# EAGLE library part XC9572XL-VQ44 (library XC9500XLneu)
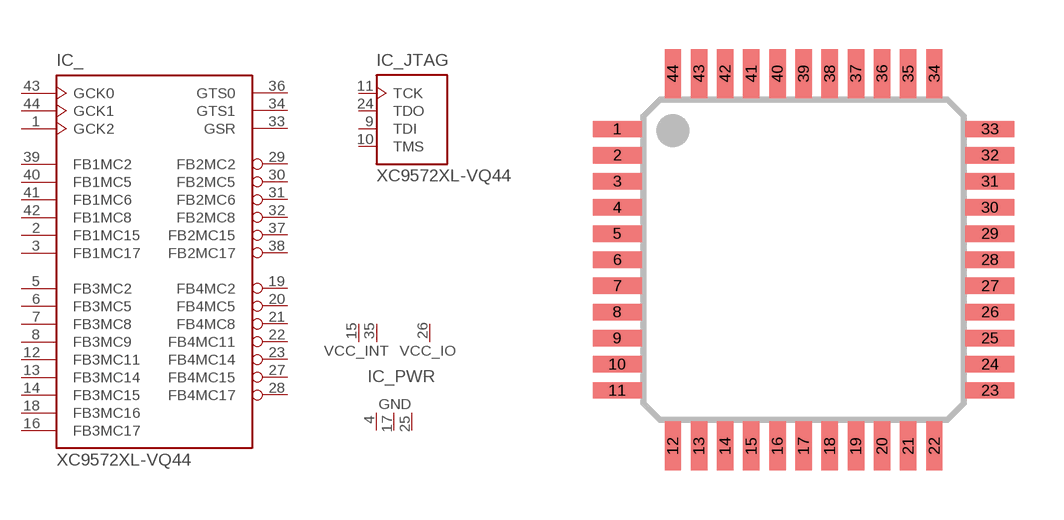
[diagram p5: symbol with the pads of VQ44; footprint VQ44]

Designator prefix IC; gates _=XC9572XL-VQ44 _JTAG=JTAG _PWR=XC9572XL_PWR

## XC9572XL-VQ44  [VQ44]
1  _:GCK2  in
2  _:FB1MC15
3  _:FB1MC17
4  _PWR:GND  pwr
5  _:FB3MC2
6  _:FB3MC5
7  _:FB3MC8
8  _:FB3MC9
9  _JTAG:TDI  in
10  _JTAG:TMS  in
11  _JTAG:TCK  in
12  _:FB3MC11
13  _:FB3MC14
14  _:FB3MC15
15  _PWR:VCC_INT  pwr
16  _:FB3MC17
17  _PWR:GND  pwr
18  _:FB3MC16
19  _:FB4MC2
20  _:FB4MC5
21  _:FB4MC8
22  _:FB4MC11
23  _:FB4MC14
24  _JTAG:TDO  out
25  _PWR:GND  pwr
26  _PWR:VCC_IO  pwr
27  _:FB4MC15
28  _:FB4MC17
29  _:FB2MC2
30  _:FB2MC5
31  _:FB2MC6
32  _:FB2MC8
33  _:GSR  in
34  _:GTS1  in
35  _PWR:VCC_INT  pwr
36  _:GTS0  in
37  _:FB2MC15
38  _:FB2MC17
39  _:FB1MC2
40  _:FB1MC5
41  _:FB1MC6
42  _:FB1MC8
43  _:GCK0  in
44  _:GCK1  in

## Footprint VQ44 (pad centres in mm)
smd 1.5 x 0.5: 1 -5.7,4; 2 -5.7,3.2; 3 -5.7,2.4; 4 -5.7,1.6; 5 -5.7,0.8; 6 -5.7,0; 7 -5.7,-0.8; 8 -5.7,-1.6; 9 -5.7,-2.4; 10 -5.7,-3.2; 11 -5.7,-4; 23 5.7,-4; 24 5.7,-3.2; 25 5.7,-2.4; 26 5.7,-1.6; 27 5.7,-0.8; 28 5.7,0; 29 5.7,0.8; 30 5.7,1.6; 31 5.7,2.4; 32 5.7,3.2; 33 5.7,4
smd 0.5 x 1.5: 12 -4,-5.7; 13 -3.2,-5.7; 14 -2.4,-5.7; 15 -1.6,-5.7; 16 -0.8,-5.7; 17 0,-5.7; 18 0.8,-5.7; 19 1.6,-5.7; 20 2.4,-5.7; 21 3.2,-5.7; 22 4,-5.7; 34 4,5.7; 35 3.2,5.7; 36 2.4,5.7; 37 1.6,5.7; 38 0.8,5.7; 39 0,5.7; 40 -0.8,5.7; 41 -1.6,5.7; 42 -2.4,5.7; 43 -3.2,5.7; 44 -4,5.7